# Altium footprint library IC-SMD.PCBLIB: 298 footprints (part 18 of 19)
Each footprint in its own frame and in the unit in brackets; x right, y up, seen from the top. Pads: shape width x height; smd on the part's side, far side on the other; paste and mask are expansions set on the pad; w line width, h text height; cw(c..) or ccw(c..) is an arc to the next point about the centre after c.
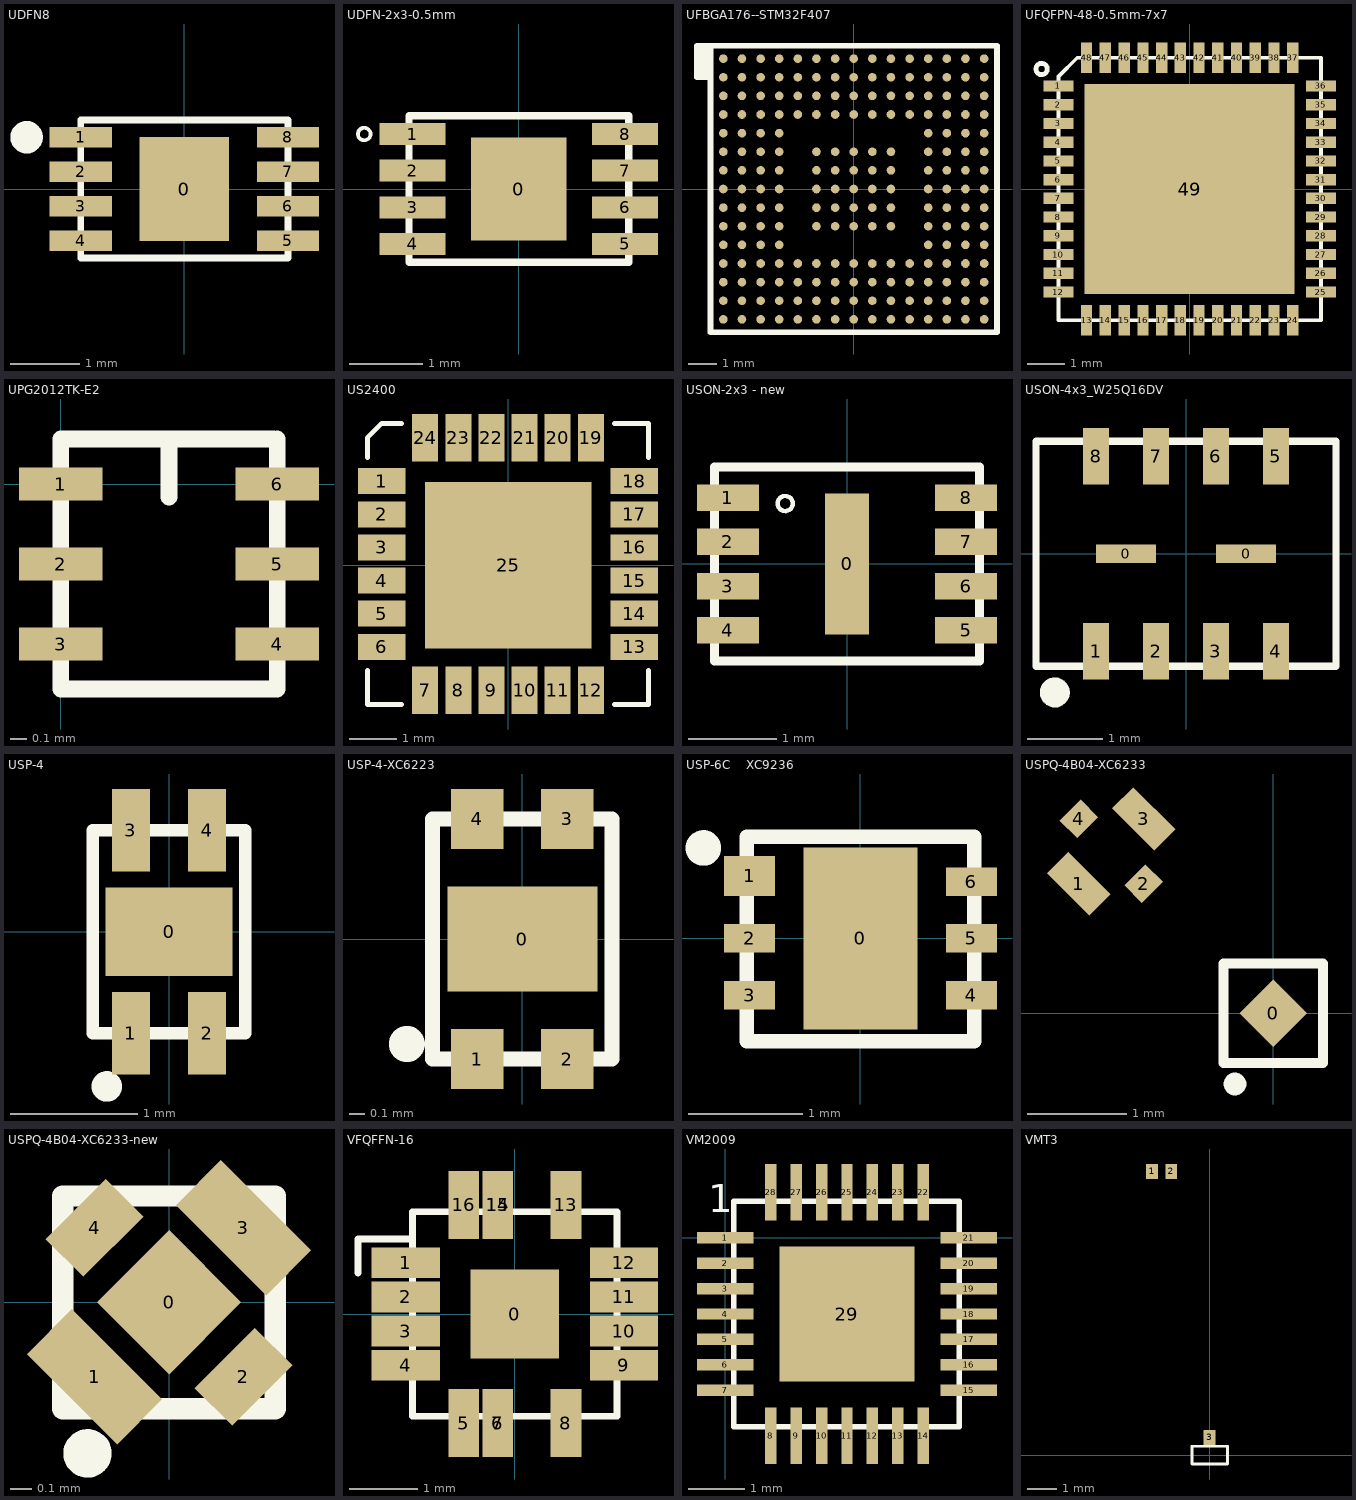
[diagram p17: the footprints below, top view; thin cyan lines are the x and y axes]

## UDFN8 [mm] "UDFN8"
pads (9):
  rect 1.3x1.5 smd mask+0.05: 0(0,0)
  rect 0.9x0.3 smd: 1(-1.5,0.75) 2(-1.5,0.25) 3(-1.5,-0.25) 4(-1.5,-0.75) 5(1.5,-0.75) 6(1.5,-0.25) 7(1.5,0.25) 8(1.5,0.75)
TopOverlay:
  circle w0.25: c-2.285,0.75 r0.11
  lines w0.1: -1.5,-1 -1.5,1 1.5,1 1.5,-1 -1.5,-1

## UDFN-2x3-0.5mm [mm] "UDFN-2x3-0.5mm"
pads (9):
  rect 1.3x1.4 smd: 0(0,0)
  rect 0.9x0.3 smd: 1(-1.45,0.75) 2(-1.45,0.25) 3(-1.45,-0.25) 4(-1.45,-0.75) 5(1.45,-0.75) 6(1.45,-0.25) 7(1.45,0.25) 8(1.45,0.75)
TopOverlay:
  circle w0.05: c-2.111,0.75 r0.086
  lines w0.1: 1.5,-1 -1.5,-1 -1.5,1 1.5,1 ; 1.5,-1 1.5,1 ; 1.5,-1 1.5,1

## UFBGA176--STM32F407 [mm] "UFBGA176--STM32F407"
pads (201):
  round 0.3 smd mask+0.05: A1(-4.55,4.55) A2(-3.9,4.55) A3(-3.25,4.55) A4(-2.6,4.55) A5(-1.95,4.55) A6(-1.3,4.55) A7(-0.65,4.55) A8(0,4.55) A9(0.65,4.55) A10(1.3,4.55) A11(1.95,4.55) A12(2.6,4.55) A13(3.25,4.55) A14(3.9,4.55) A15(4.55,4.55) B1(-4.55,3.9) B2(-3.9,3.9) B3(-3.25,3.9) B4(-2.6,3.9) B5(-1.95,3.9) B6(-1.3,3.9) B7(-0.65,3.9) B8(0,3.9) B9(0.65,3.9) B10(1.3,3.9) B11(1.95,3.9) B12(2.6,3.9) B13(3.25,3.9) B14(3.9,3.9) B15(4.55,3.9) C1(-4.55,3.25) C2(-3.9,3.25) C3(-3.25,3.25) C4(-2.6,3.25) C5(-1.95,3.25) C6(-1.3,3.25) C7(-0.65,3.25) C8(0,3.25) C9(0.65,3.25) C10(1.3,3.25) C11(1.95,3.25) C12(2.6,3.25) C13(3.25,3.25) C14(3.9,3.25) C15(4.55,3.25) D1(-4.55,2.6) D2(-3.9,2.6) D3(-3.25,2.6) D4(-2.6,2.6) D5(-1.95,2.6) D6(-1.3,2.6) D7(-0.65,2.6) D8(0,2.6) D9(0.65,2.6) D10(1.3,2.6) D11(1.95,2.6) D12(2.6,2.6) D13(3.25,2.6) D14(3.9,2.6) D15(4.55,2.6) E1(-4.55,1.95) E2(-3.9,1.95) E3(-3.25,1.95) E4(-2.6,1.95) E12(2.6,1.95) E13(3.25,1.95) E14(3.9,1.95) E15(4.55,1.95) F1(-4.55,1.3) F2(-3.9,1.3) F3(-3.25,1.3) F4(-2.6,1.3) F6(-1.3,1.3) F7(-0.65,1.3) F8(0,1.3) F9(0.65,1.3) F10(1.3,1.3) F12(2.6,1.3) F13(3.25,1.3) F14(3.9,1.3) F15(4.55,1.3) G1(-4.55,0.65) G2(-3.9,0.65) G3(-3.25,0.65) G4(-2.6,0.65) G6(-1.3,0.65) G7(-0.65,0.65) G8(0,0.65) G9(0.65,0.65) G10(1.3,0.65) G12(2.6,0.65) G13(3.25,0.65) G14(3.9,0.65) G15(4.55,0.65) H1(-4.55,0) H2(-3.9,0) H3(-3.25,0) H4(-2.6,0) H6(-1.3,0) H7(-0.65,0) H8(0,0) H9(0.65,0) H10(1.3,0) H12(2.6,0) H13(3.25,0) H14(3.9,0) H15(4.55,0) J1(-4.55,-0.65) J2(-3.9,-0.65) J3(-3.25,-0.65) J4(-2.6,-0.65) J6(-1.3,-0.65) J7(-0.65,-0.65) J8(0,-0.65) J9(0.65,-0.65) J10(1.3,-0.65) J12(2.6,-0.65) J13(3.25,-0.65) J14(3.9,-0.65) J15(4.55,-0.65) K1(-4.55,-1.3) K2(-3.9,-1.3) K3(-3.25,-1.3) K4(-2.6,-1.3) K6(-1.3,-1.3) K7(-0.65,-1.3) K8(0,-1.3) K9(0.65,-1.3) K10(1.3,-1.3) K12(2.6,-1.3) K13(3.25,-1.3) K14(3.9,-1.3) K15(4.55,-1.3) L1(-4.55,-1.95) L2(-3.9,-1.95) L3(-3.25,-1.95) L4(-2.6,-1.95) L12(2.6,-1.95) L13(3.25,-1.95) L14(3.9,-1.95) L15(4.55,-1.95) M1(-4.55,-2.6) M2(-3.9,-2.6) M3(-3.25,-2.6) M4(-2.6,-2.6) M5(-1.95,-2.6) M6(-1.3,-2.6) M7(-0.65,-2.6) M8(0,-2.6) M9(0.65,-2.6) M10(1.3,-2.6) M11(1.95,-2.6) M12(2.6,-2.6) M13(3.25,-2.6) M14(3.9,-2.6) M15(4.55,-2.6) N1(-4.55,-3.25) N2(-3.9,-3.25) N3(-3.25,-3.25) N4(-2.6,-3.25) N5(-1.95,-3.25) N6(-1.3,-3.25) N7(-0.65,-3.25) N8(0,-3.25) N9(0.65,-3.25) N10(1.3,-3.25) N11(1.95,-3.25) N12(2.6,-3.25) N13(3.25,-3.25) N14(3.9,-3.25) N15(4.55,-3.25) P1(-4.55,-3.9) P2(-3.9,-3.9) P3(-3.25,-3.9) P4(-2.6,-3.9) P5(-1.95,-3.9) P6(-1.3,-3.9) P7(-0.65,-3.9) P8(0,-3.9) P9(0.65,-3.9) P10(1.3,-3.9) P11(1.95,-3.9) P12(2.6,-3.9) P13(3.25,-3.9) P14(3.9,-3.9) P15(4.55,-3.9) R1(-4.55,-4.55) R2(-3.9,-4.55) R3(-3.25,-4.55) R4(-2.6,-4.55) R5(-1.95,-4.55) R6(-1.3,-4.55) R7(-0.65,-4.55) R8(0,-4.55) R9(0.65,-4.55) R10(1.3,-4.55) R11(1.95,-4.55) R12(2.6,-4.55) R13(3.25,-4.55) R14(3.9,-4.55) R15(4.55,-4.55)
TopOverlay:
  rectangle: -5.3,3.9 -5,5
  rectangle: -5.47,3.9 -5.17,5
  lines w0.2: -5.17,3.9 -5.47,3.9 -5.47,5 -5.17,5 ; -5,3.9 -5.3,3.9 -5.3,5 -5,5 ; -5,5 5,5 5,-5 -5,-5 -5,5

## UFQFPN-48-0.5mm-7x7 [mm] "UFQFPN-48-0.5mm-7x7"
pads (49):
  rect 0.8x0.3 smd: 1(-3.5,2.75) 2(-3.5,2.25) 3(-3.5,1.75) 4(-3.5,1.25) 5(-3.5,0.75) 6(-3.5,0.25) 7(-3.5,-0.25) 8(-3.5,-0.75) 9(-3.5,-1.25) 10(-3.5,-1.75) 11(-3.5,-2.25) 12(-3.5,-2.75) 25(3.5,-2.75) 26(3.5,-2.25) 27(3.5,-1.75) 28(3.5,-1.25) 29(3.5,-0.75) 30(3.5,-0.25) 31(3.5,0.25) 32(3.5,0.75) 33(3.5,1.25) 34(3.5,1.75) 35(3.5,2.25) 36(3.5,2.75)
  rect 0.3x0.8 smd: 13(-2.75,-3.5) 14(-2.25,-3.5) 15(-1.75,-3.5) 16(-1.25,-3.5) 17(-0.75,-3.5) 18(-0.25,-3.5) 19(0.25,-3.5) 20(0.75,-3.5) 21(1.25,-3.5) 22(1.75,-3.5) 23(2.25,-3.5) 24(2.75,-3.5) 37(2.75,3.5) 38(2.25,3.5) 39(1.75,3.5) 40(1.25,3.5) 41(0.75,3.5) 42(0.25,3.5) 43(-0.25,3.5) 44(-0.75,3.5) 45(-1.25,3.5) 46(-1.75,3.5) 47(-2.25,3.5) 48(-2.75,3.5)
  rect 5.6x5.6 smd: 49(0,0)
TopOverlay:
  circle w0.127: c-3.95,3.2 r0.15
  lines w0.1: -3.5,-3.5 3.5,-3.5 3.5,3.5 -3,3.5 -3.5,3 -3.5,-3.5
TopPaste:
  rectangle: 0.3,-2.15 2,-0.25
  rectangle: -2.1,-2.15 -0.4,-0.25
  rectangle: 0.3,0.25 2,2.15
  rectangle: -2.1,0.25 -0.4,2.15

## UPG2012TK-E2 [mm]
pads (6):
  rect 0.5x0.2 smd: 1(0,0) 2(0,-0.48) 3(0,-0.96) 4(1.3,-0.96) 5(1.3,-0.48) 6(1.3,0)
TopOverlay:
  lines w0.1: 0.65,-0.08 0.65,0.27 ; 1.275,0.27 0,0.27 0,-1.23 1.3,-1.23 1.3,0.27

## US2400 [mm]
pads (25):
  rect 1x0.55 smd: 1(-2.675,1.775) 2(-2.675,1.075) 3(-2.675,0.375) 4(-2.675,-0.325) 5(-2.675,-1.025) 6(-2.675,-1.725) 13(2.665,-1.725) 14(2.665,-1.025) 15(2.665,-0.325) 16(2.665,0.375) 17(2.665,1.075) 18(2.665,1.775)
  rect 0.55x1 smd: 7(-1.755,-2.645) 8(-1.055,-2.645) 9(-0.355,-2.645) 10(0.345,-2.645) 11(1.045,-2.645) 12(1.745,-2.645) 19(1.745,2.695) 20(1.045,2.695) 21(0.345,2.695) 22(-0.355,2.695) 23(-1.055,2.695) 24(-1.755,2.695)
  rect 3.525x3.525 smd: 25(0,0)
TopOverlay:
  lines w0.1: -2.975,-2.225 -2.975,-2.945 -2.255,-2.945 ; -2.975,2.275 -2.975,2.695 -2.675,2.995 -2.255,2.995 ; 2.245,-2.945 2.965,-2.945 2.965,-2.225 ; 2.245,2.995 2.965,2.995 2.965,2.275
BottomSolder:
  region: 1.75,1.775 -1.775,1.775 -1.775,-1.75 1.75,-1.75

## USON-2x3 - new [mm] "USON-2x3 - new"
pads (9):
  rect 0.5x1.6 smd: 0(0,0)
  rect 0.7x0.3 smd: 1(-1.35,0.75) 2(-1.35,0.25) 3(-1.35,-0.25) 4(-1.35,-0.75) 5(1.35,-0.75) 6(1.35,-0.25) 7(1.35,0.25) 8(1.35,0.75)
TopOverlay:
  circle w0.05: c-0.7,0.686 r0.086
  lines w0.1: 1.5,-1 1.5,1.1 -1.5,1.1 -1.5,-1.1 1.5,-1.1 1.5,1

## USON-4x3_W25Q16DV [mm] "USON-4x3_W25Q16DV"
pads (10):
  rect 0.8x0.25 smd mask+0.1: 0(-0.8,0) 0(0.8,0)
  rect 0.35x0.75 smd: 1(-1.2,-1.3) 2(-0.4,-1.3) 3(0.4,-1.3) 4(1.2,-1.3) 5(1.2,1.3) 6(0.4,1.3) 7(-0.4,1.3) 8(-1.2,1.3)
TopOverlay:
  circle w0.2: c-1.75,-1.85 r0.1
  lines w0.1: -2,-1.5 2,-1.5 2,1.5 -2,1.5 -2,-1.5

## USP-4 [mm] "USP-4"
pads (5):
  rect 1x0.7 smd: 0(0,0)
  rect 0.3x0.65 smd: 1(-0.3,-0.8) 2(0.3,-0.8) 3(-0.3,0.8) 4(0.3,0.8)
TopOverlay:
  circle w0.2: c-0.49,-1.22 r0.02
  lines w0.1: -0.6,-0.8 0.6,-0.8 0.6,0.8 -0.6,0.8 -0.6,-0.8

## USP-4-XC6223 [mm] "USP-4-XC6223"
pads (5):
  rect 1x0.7 smd: 0(0,0)
  rect 0.35x0.4 smd: 1(-0.3,-0.8) 2(0.3,-0.8) 3(0.3,0.8) 4(-0.3,0.8)
TopOverlay:
  circle w0.2: c-0.77,-0.7 r0.02
  lines w0.1: -0.6,-0.8 0.6,-0.8 0.6,0.8 -0.6,0.8 -0.6,-0.8

## USP-6C    XC9236 [mm] "USP-6C    XC9236"
pads (7):
  rect 1x1.6 smd: 0(0,0)
  rect 0.45x0.35 smd: 1(-0.975,0.55)
  rect 0.45x0.25 smd: 2(-0.975,0) 3(-0.975,-0.5) 4(0.975,-0.5) 5(0.975,0) 6(0.975,0.5)
TopOverlay:
  circle w0.2: c-1.381,0.795 r0.056
  lines w0.127: -1,-0.905 1,-0.905 1,0.895 -1,0.895 -1,-0.905

## USPQ-4B04-XC6233 [mm] "USPQ-4B04-XC6233"
pads (5):
  rect 0.48x0.48 smd rot 45: 0(0,0)
  rect 0.3x0.6 smd rot 45: 1(-1.95,1.3) 3(-1.3,1.95)
  rect 0.3x0.25 smd rot 45: 2(-1.3,1.3) 4(-1.95,1.95)
TopOverlay:
  circle w0.127: c-0.383,-0.71 r0.05
  lines w0.1: -0.5,-0.5 -0.5,0.5 0.5,0.5 0.5,-0.5 -0.5,-0.5

## USPQ-4B04-XC6233-new [mm] "USPQ-4B04-XC6233-new"
pads (5):
  rect 0.48x0.48 smd rot 45: 0(0,0)
  rect 0.3x0.6 smd rot 45: 1(-0.35,-0.35) 3(0.35,0.35)
  rect 0.4x0.25 smd rot 45: 2(0.35,-0.35) 4(-0.35,0.35)
TopOverlay:
  circle w0.127: c-0.383,-0.71 r0.05
  lines w0.1: -0.5,-0.5 -0.5,0.5 0.5,0.5 0.5,-0.5 -0.5,-0.5

## VFQFFN-16 [mm]
pads (17):
  rect 1.3x1.3 smd: 0(0,0)
  rect 1x0.45 smd: 1(-1.6,0.75) 2(-1.6,0.25) 3(-1.6,-0.25) 4(-1.6,-0.75) 9(1.6,-0.75) 10(1.6,-0.25) 11(1.6,0.25) 12(1.6,0.75)
  rect 0.45x1 smd: 5(-0.75,-1.6) 6(-0.25,-1.6) 7(-0.25,-1.6) 8(0.75,-1.6) 13(0.75,1.6) 14(-0.25,1.6) 15(-0.25,1.6) 16(-0.75,1.6)
TopOverlay:
  lines w0.1: -2.3,0.6 -2.3,1.1 -1.5,1.1 ; -1.5,-1.5 -1.5,1.5 1.5,1.5 1.5,-1.5 -1.5,-1.5

## VM2009 [mm]
pads (29):
  rect 1x0.2 smd: 1(0,0) 2(0,-0.45) 3(0,-0.9) 4(0,-1.35) 5(0,-1.8) 6(0,-2.25) 7(0,-2.7) 15(4.32,-2.7) 16(4.32,-2.25) 17(4.32,-1.8) 18(4.32,-1.35) 19(4.32,-0.9) 20(4.32,-0.45) 21(4.32,0)
  rect 0.2x1 smd: 8(0.81,-3.51) 9(1.26,-3.51) 10(1.71,-3.51) 11(2.16,-3.51) 12(2.61,-3.51) 13(3.06,-3.51) 14(3.51,-3.51) 22(3.51,0.81) 23(3.06,0.81) 24(2.61,0.81) 25(2.16,0.81) 26(1.71,0.81) 27(1.26,0.81) 28(0.81,0.81)
  rect 2.4x2.4 smd: 29(2.16,-1.35)
TopOverlay:
  lines w0.1: 0.15,-3.35 4.15,-3.35 4.15,0.65 0.15,0.65 0.15,-3.35
  text "1" at -0.298,0.451 h0.5

## VMT3 [mm]
pads (3):
  rect 0.4x0.5 smd: 1(-1.95,9.6) 2(-1.3,9.6) 3(0,0.6)
TopOverlay:
  lines w0.1: -0.6,-0.3 -0.6,0.3 0.6,0.3 0.6,-0.3 -0.6,-0.3